# EAGLE library part AUDIOAMP_MAX9814 (library microbuilder)
MAX9814 - Mono Microphone Amplifier with AGC
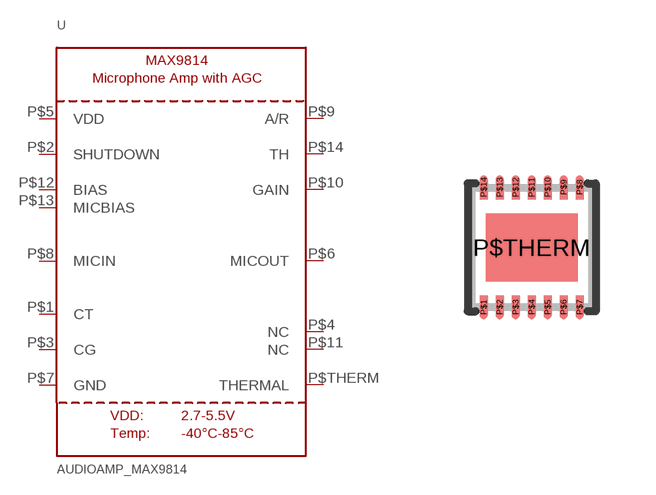
[diagram p198: symbol with the pads of WFDFN-14; footprint WFDFN-14]

Designator prefix U

## AUDIOAMP_MAX9814  [WFDFN-14]
P$1  CT
P$2  SHUTDOWN
P$3  CG
P$4  NC
P$5  VDD
P$6  MICOUT
P$7  GND
P$8  MICIN
P$9  A/R
P$10  GAIN
P$11  NC
P$12  BIAS
P$13  MICBIAS
P$14  TH
P$THERM  THERMAL

## Footprint WFDFN-14 (pad centres in mm)
14-WFDFN 3x3mm 0.4mm Pitch Source: http://datasheets.maxim-ic.com/en/ds/MAX9814.pdf
smd 0.2 x 0.6: P$1 -1.2,-1.5; P$2 -0.8,-1.5; P$3 -0.4,-1.5; P$4 0,-1.5; P$5 0.4,-1.5; P$6 0.8,-1.5; P$7 1.2,-1.5; P$8 1.2,1.5; P$9 0.8,1.5; P$10 0.4,1.5; P$11 0,1.5; P$12 -0.4,1.5; P$13 -0.8,1.5; P$14 -1.2,1.5
smd 2.3 x 1.7: P$THERM 0,0